# EAGLE library part APDS-9960 (library e-radionica_E-R MADE)
SKU: 100080 The APDS-9960 is a small sensor that measures four things at once. It is possible to recognize the movements you make in front of it (up, down, left, right) and it can identify the vicinity of the object, so you have two more movements: to the sensor and from the sensor. In addition, it has an ambient light sensor and a color sensor which gives red, green, and blue (RGB) colors as output. This sensor is a "serious thing" with many features even built into the Samsung Galaxy S5. All gestures are detected at a distance of 10 to 20cm and it has built-in UV and IR filters to make sure it won't be confused by other sources of light. Connected using well-known I2C communication. • Voltage: 3.3V • Voltage I2C: 3.3V • Dimensions: 16 x 16mm
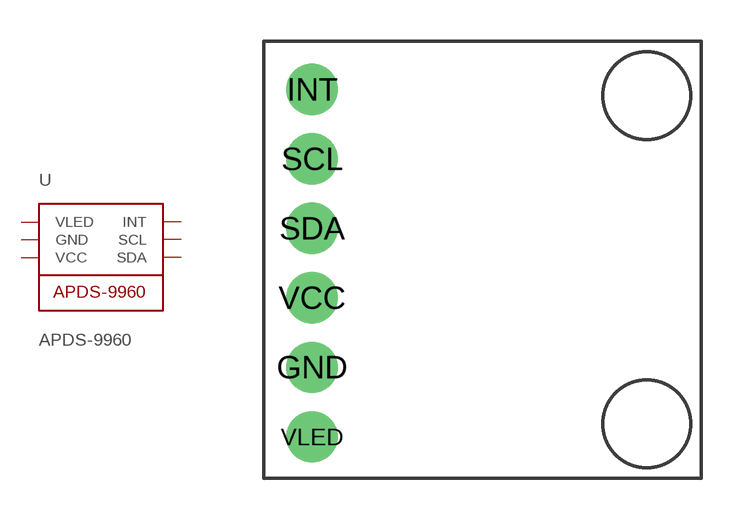
[diagram p8: symbol with the pads of APDS-9960; footprint APDS-9960]

Designator prefix -

## APDS-9960  [APDS-9960]
GND  GND  sup
INT  INT
SCL  SCL
SDA  SDA
VCC  VCC  sup
VLED  VLED

## Footprint APDS-9960 (pad centres in mm)
drill 1.016 pad 1.88: GND 1.778,4.064; INT 1.778,14.224; SCL 1.778,11.684; SDA 1.778,9.144; VCC 1.778,6.604; VLED 1.778,1.524